# Altium footprint library gasPCBv0.6.PcbLib: 12 footprints
Each footprint in its own frame and in the unit in brackets; x right, y up, seen from the top. Pads: shape width x height; smd on the part's side, far side on the other; paste and mask are expansions set on the pad; w line width, h text height; cw(c..) or ccw(c..) is an arc to the next point about the centre after c.
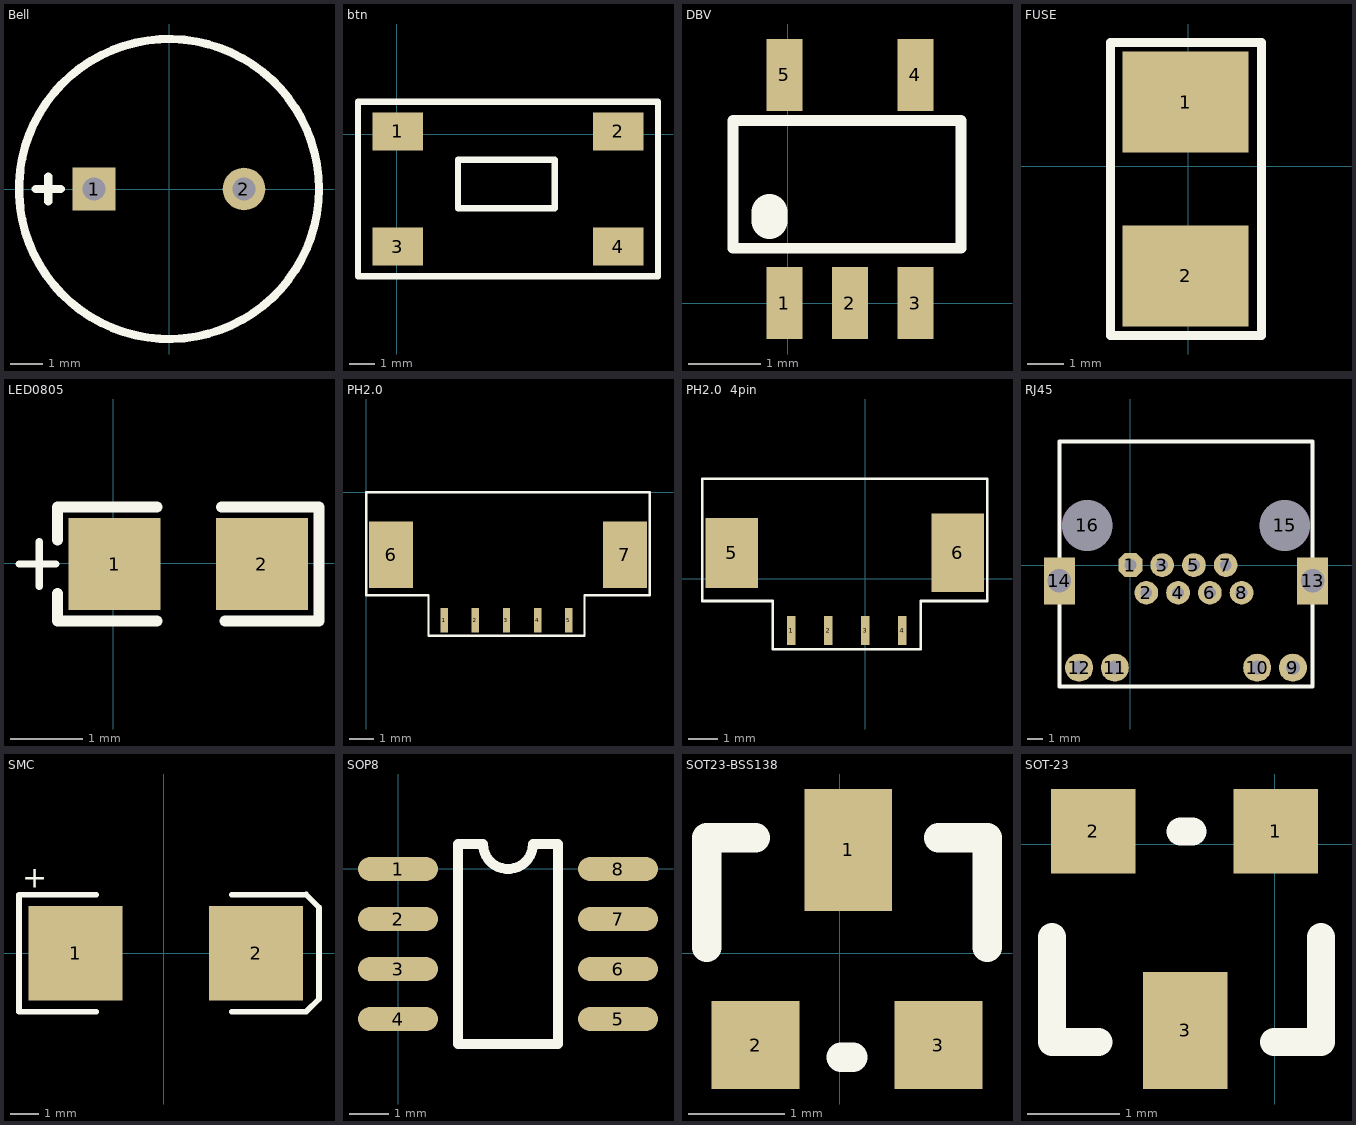
[diagram p0: the footprints below, top view; thin cyan lines are the x and y axes]

## Bell [mm]
pads (2):
  rect 1.3x1.3 hole 0.7: 1(-2.286,0)
  round 1.3 hole 0.7: 2(2.286,0)
Top Overlay:
  circle w0.254: c0,0 r4.572
  lines w0.254: -4.064,0 -3.302,0 ; -3.683,-0.381 -3.683,0.381

## btn [mm]
pads (4):
  rect 2x1.5 smd: 1(0.038,0.11) 2(8.725,0.11) 3(0.038,-4.428) 4(8.725,-4.428)
Top Overlay:
  lines w0.254: -1.524,-5.588 10.287,-5.588 10.287,1.27 -1.524,1.27 -1.524,-5.588 ; 2.413,-2.921 6.223,-2.921 6.223,-1.016 2.413,-1.016 2.413,-2.921

## DBV [mm]
pads (5):
  rect 0.5x1 smd: 1(-0.046,0) 2(0.866,0) 3(1.778,0) 4(1.778,3.175) 5(-0.046,3.175)
Top Overlay:
  lines w0.15: -0.762,0.762 2.413,0.762 2.413,2.54 -0.762,2.54 -0.762,0.762
  lines w0.5: -0.254,1.143 -0.254,1.27

## FUSE [mm]
pads (2):
  rect 3.5x2.8 smd: 1(-0.074,1.778) 2(-0.074,-3.048)
Top Overlay:
  lines w0.254: -2.159,-4.699 2.032,-4.699 2.032,3.429 -2.159,3.429 -2.159,-4.699

## LED0805 [mil]
pads (2):
  rect 50x50 smd: 1(0.79,-0.42) 2(80.79,-0.42)
Top Overlay:
  lines w4: -51.21,-0.42 -31.21,-0.42 ; -40.21,-12.42 -40.21,11.58
  lines w6: -30.21,-16.42 -30.21,-31.42 23.79,-31.42 ; -30.21,12.58 -30.21,30.58 23.79,30.58 ; 58.79,30.58 111.79,30.58 111.79,-30.42 ; 60.79,-31.42 111.79,-31.42

## PH2.0 [mm]
pads (7):
  rect 0.3x1 smd: 1(3.175,-5.207) 2(4.445,-5.207) 3(5.715,-5.207) 4(6.985,-5.207) 5(8.255,-5.207)
  rect 1.8x2.7 smd: 6(1.016,-2.54) 7(10.541,-2.54)
Top Overlay:
  lines w0.09: 0,-4.191 0,0 11.557,0 11.557,-4.191 8.89,-4.191 8.89,-5.842 2.54,-5.842 2.54,-4.191 0,-4.191

## PH2.0  4pin [mm]
pads (6):
  rect 0.3x1 smd: 1(-2.54,-1.778) 2(-1.27,-1.778) 3(0,-1.778) 4(1.27,-1.778)
  rect 1.8x2.4 smd: 5(-4.572,0.889)
  rect 1.8x2.7 smd: 6(3.175,0.889)
Top Overlay:
  lines w0.09: -5.588,-0.762 -5.588,3.429 4.191,3.429 4.191,-0.762 1.905,-0.762 1.905,-2.413 -3.175,-2.413 -3.175,-0.762 -5.588,-0.762

## RJ45 [mm]
pads (16):
  oct 1.524x1.524 hole 0.762: 1(0,0)
  round 1.524 hole 0.762: 2(1.02,-1.778) 3(2.04,0) 4(3.06,-1.778) 5(4.08,0) 6(5.1,-1.778) 7(6.12,0) 8(7.14,-1.778)
  round 1.8 hole 0.89: 9(10.43,-6.588) 10(8.14,-6.588) 11(-1,-6.588) 12(-3.29,-6.588)
  rect 2x3 hole 1.5: 13(11.7,-1.018) 14(-4.56,-1.018)
  round 3.25 on Keep-Out hole 3.25: 15(9.92,2.542) 16(-2.78,2.542)
Top Overlay:
  lines w0.254: -4.56,-7.808 11.7,-7.808 11.7,7.942 -4.56,7.942 -4.56,-7.808

## SMC [mm] "DO-214-AB/SMC; 2 C-Bend Leads; Body 7.9 x 5.9 mm, inc. leads (LxW)"
height 2.65
pads (2):
  rect 3.3x3.3 smd: 1(-3.094,0) 2(3.221,0)
Top Overlay:
  lines w0.2: -2.375,-2.05 -5.075,-2.05 -5.075,2.05 -2.375,2.05 ; 2.375,-2.05 4.975,-2.05 5.425,-1.6 5.425,1.6 4.975,2.055 ; 2.375,2.05 4.975,2.05
  text "+" at -4.953,2.286 h0.76

## SOP8 [mil]
pads (8):
  oval 80x24 smd: 1(-0.48,-0.09) 2(-0.48,-50.09) 3(-0.48,-100.09) 4(-0.48,-150.09) 5(219.52,-150.09) 6(219.52,-100.09) 7(219.52,-50.09) 8(219.52,-0.09)
Top Overlay:
  lines w10: 59.52,-175.09 59.52,24.91 84.52,24.91 ccw(c109.52,24.91) 134.52,24.91 159.52,24.91 159.52,-175.09 59.52,-175.09

## SOT23-BSS138 [mil]
pads (3):
  rect 36x50 smd: 1(3.51,42.32)
  rect 36x36 smd: 2(-34.49,-37.68) 3(40.51,-37.68)
Top Overlay:
  lines w12: -54.49,2.32 -54.49,47.32 -34.49,47.32 ; 0.51,-42.68 5.51,-42.68 ; 40.51,47.32 60.51,47.32 60.51,2.32

## SOT-23 [mil]
pads (3):
  rect 36x36 smd: 1(0.43,5.51) 2(-77.57,5.51)
  rect 36x50 smd: 3(-38.2,-79.68)
Top Overlay:
  lines w12: -95.2,-39.68 -95.2,-84.68 -75.2,-84.68 ; -40.2,5.32 -35.2,5.32 ; -0.2,-84.68 19.8,-84.68 19.8,-39.68